# Altium footprint library Quad-Stage-Prototype.PcbLib: 24 footprints (part 2 of 2)
Each footprint in its own frame and in the unit in brackets; x right, y up, seen from the top. Pads: shape width x height; smd on the part's side, far side on the other; paste and mask are expansions set on the pad; w line width, h text height; cw(c..) or ccw(c..) is an arc to the next point about the centre after c.
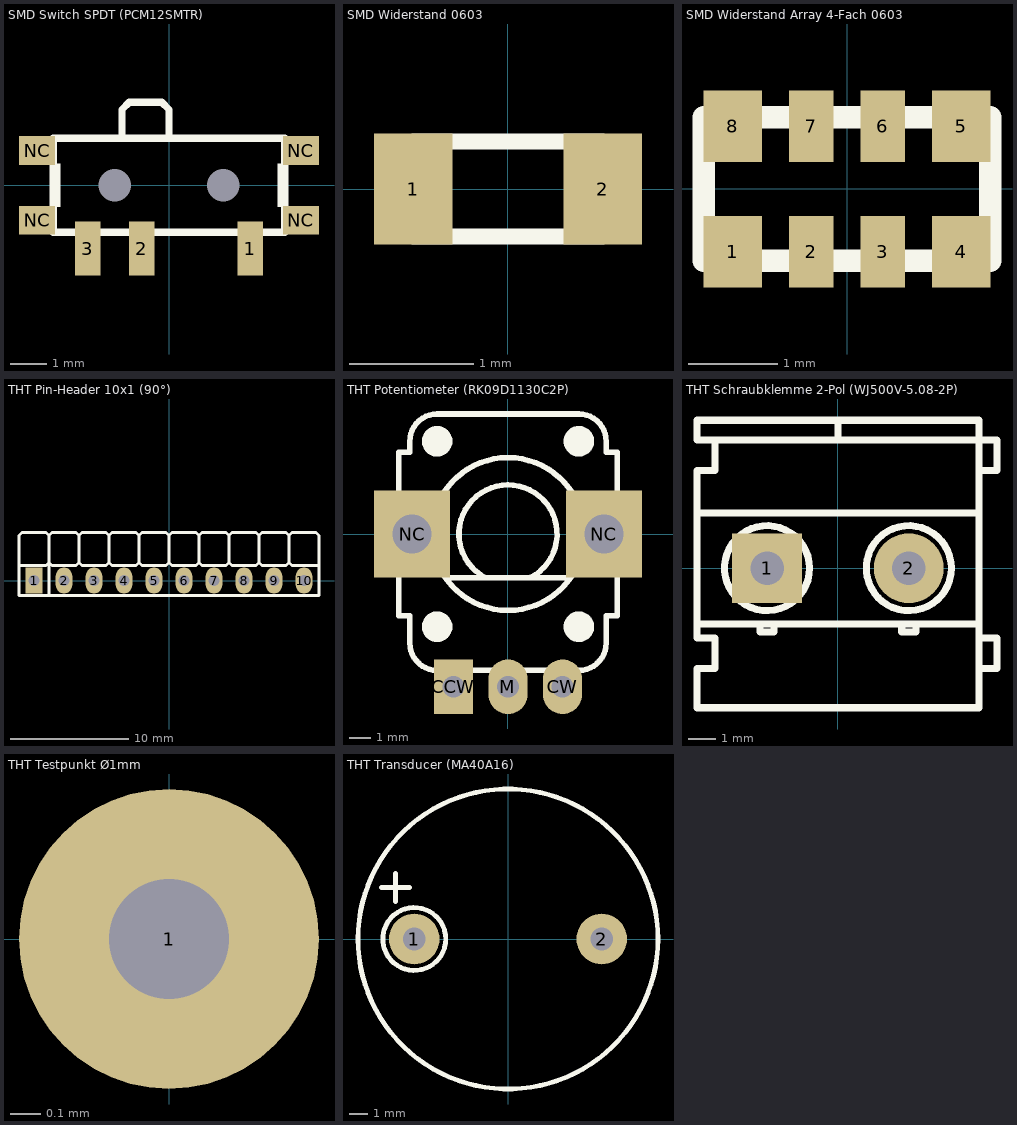
[diagram p1: the footprints below, top view; thin cyan lines are the x and y axes]

## SMD Switch SPDT (PCM12SMTR) [mm]
pads (9):
  rect 0.7x1.5 smd: 1(2.25,-1.75) 2(-0.75,-1.75) 3(-2.25,-1.75)
  rect 1x0.8 smd: NC(-3.65,-0.965) NC(-3.65,0.965) NC(3.65,-0.965) NC(3.65,0.965)
  round 0 hole 0.9 unplated: NC(-1.5,0) NC(1.5,0)
Top Overlay:
  region: 3.2,0.6 3,0.6 3,-0.6 3.2,-0.6
  rectangle: -3.2,-0.6 -3,0.6
  lines w0.203: -1.3,1.3 -1.3,2.1 -1.1,2.3 -0.2,2.3 0,2.1 0,1.3 ; 0,1.3 3.2,1.3 3.2,-1.3 0,-1.3 -3.2,-1.3 -3.2,1.3 0,1.3
3D body "User Library-pcm12smtr.STEP": height 1.4, standoff -0.5, extent -3.673,-2.23 3.681,2.345

## SMD Widerstand 0603 [mil]
height 66.93
pads (2):
  rect 25x35 smd: 1(-30,0) 2(30,0)
Top Overlay:
  lines w5: -30,-15 30,-15 30,15 -30,15 -30,-15
3D body "User Library-Panasonic0603.step": height 17.72, standoff 0, extent -31.5,-16.14 31.5,16.14

## SMD Widerstand Array 4-Fach 0603 [mm]
pads (8):
  rect 0.65x0.8 smd: 1(-1.275,-0.7) 4(1.275,-0.7) 5(1.275,0.7) 8(-1.275,0.7)
  rect 0.5x0.8 smd: 2(-0.4,-0.7) 3(0.4,-0.7) 6(0.4,0.7) 7(-0.4,0.7)
Top Overlay:
  lines w0.254: -1.6,-0.8 1.6,-0.8 1.6,0.8 -1.6,0.8 -1.6,-0.8
3D body "User Library-R-0603-Array-4-1.step": height 0.51, standoff -0.01, extent -1.6,-0.8 1.6,0.8

## THT Pin-Header 10x1 (90°) [mm]
pads (10):
  rect 1.4x2.2 hole 0.9: 1(-11.43,0)
  oval 1.4x2.2 hole 0.9: 2(-8.89,0) 3(-6.35,0) 4(-3.81,0) 5(-1.27,0) 6(1.27,0) 7(3.81,0) 8(6.35,0) 9(8.89,0) 10(11.43,0)
Top Overlay:
  lines w0.254: -10.16,-1.27 -10.16,1.27 ; 12.7,1.524 12.7,3.81 ; -12.7,1.27 -10.414,1.27 -10.16,1.524 ; -12.7,1.27 -12.7,3.81 -12.446,4.064 -10.414,4.064 -10.16,3.81 ; -12.7,1.27 -12.7,-1.27 12.7,-1.27 12.7,1.27 ; -10.16,1.524 -10.16,3.81 ; -10.16,1.524 -9.906,1.27 -7.874,1.27 -7.62,1.524 ; -10.16,1.524 -10.16,3.81 ; -10.16,3.81 -9.906,4.064 -7.874,4.064 -7.62,3.81 ; -7.62,1.524 -7.62,3.81 ; -7.62,1.524 -7.366,1.27 -5.334,1.27 -5.08,1.524 ; -7.62,1.524 -7.62,3.81 ; -7.62,3.81 -7.366,4.064 -5.334,4.064 -5.08,3.81 ; -5.08,1.524 -5.08,3.81 ; -5.08,1.524 -4.826,1.27 -2.794,1.27 -2.54,1.524 ; -5.08,1.524 -5.08,3.81 ; -5.08,3.81 -4.826,4.064 -2.794,4.064 -2.54,3.81 ; -2.54,1.524 -2.54,3.81 ; -2.54,1.524 -2.286,1.27 -0.254,1.27 0,1.524 ; -2.54,1.524 -2.54,3.81 ; -2.54,3.81 -2.286,4.064 -0.254,4.064 0,3.81 ; 0,1.524 0,3.81 ; 0,1.524 0.254,1.27 2.286,1.27 2.54,1.524 ; 0,1.524 0,3.81 ; 0,3.81 0.254,4.064 2.286,4.064 2.54,3.81 ; 2.54,1.524 2.54,3.81 ; 2.54,1.524 2.794,1.27 4.826,1.27 5.08,1.524 ; 2.54,1.524 2.54,3.81 ; 2.54,3.81 2.794,4.064 4.826,4.064 5.08,3.81 ; 5.08,1.524 5.08,3.81 ; 5.08,1.524 5.334,1.27 7.366,1.27 7.62,1.524 ; 5.08,1.524 5.08,3.81 ; 5.08,3.81 5.334,4.064 7.366,4.064 7.62,3.81 ; 7.62,1.524 7.62,3.81 ; 7.62,1.524 7.874,1.27 9.906,1.27 10.16,1.524 ; 7.62,1.524 7.62,3.81 ; 7.62,3.81 7.874,4.064 9.906,4.064 10.16,3.81 ; 10.16,1.524 10.16,3.81 ; 10.16,1.524 10.414,1.27 12.7,1.27 ; 10.16,1.524 10.16,3.81 ; 10.16,3.81 10.414,4.064 12.446,4.064 12.7,3.81 ; 12.7,1.27 12.7,3.81
3D body "User Library-Header90-1.x_b": height 2.54, standoff -3, extent -2.54,-0.381 0,9.979
3D body "User Library-Header90-1.x_b": height 2.54, standoff -3, extent -5.08,-0.381 -2.54,9.979
3D body "User Library-Header90-1.x_b": height 2.54, standoff -3, extent -7.62,-0.381 -5.08,9.979
3D body "User Library-Header90-1.x_b": height 2.54, standoff -3, extent -10.16,-0.381 -7.62,9.979
3D body "User Library-Header90-1.x_b": height 2.54, standoff -3, extent -12.7,-0.381 -10.16,9.979
3D body "User Library-Header90-1.x_b": height 2.54, standoff -3, extent 10.16,-0.381 12.7,9.979
3D body "User Library-Header90-1.x_b": height 2.54, standoff -3, extent 7.62,-0.381 10.16,9.979
3D body "User Library-Header90-1.x_b": height 2.54, standoff -3, extent 5.08,-0.381 7.62,9.979
3D body "User Library-Header90-1.x_b": height 2.54, standoff -3, extent 2.54,-0.381 5.08,9.979
3D body "User Library-Header90-1.x_b": height 2.54, standoff -3, extent 0,-0.381 2.54,9.979

## THT Potentiometer (RK09D1130C2P) [mm] "Capacitor, Electrolytic, Radial; Body 5 x 5 mm (Dia.xH typ); Pin Spacing 2 mm (typ)"
height 6
pads (5):
  rect 1.8x2.5 hole 1: CCW(-2.5,-7)
  oval 1.8x2.5 hole 1: CW(2.5,-7) M(0,-7)
  rect 3.5x4 hole 1.8 square: NC(-4.4,0) NC(4.4,0)
Top Overlay:
  circle w0.8: c-3.25,4.25 r0.3
  circle w0.254: c0,0 r3.5
  circle w0.8: c3.25,4.25 r0.3
  circle w0.8: c-3.25,-4.25 r0.3
  circle w0.8: c3.25,-4.25 r0.3
  lines w0.254: -5,-1 -5.5,-1 -5.5,1 -5,1 ; -2.8,-2 2.8,-2 ; -1.026,-2.002 cw(c0,0) 1.046,-1.992 ; 5,-1 5.5,-1 5.5,1 5,1 ; -5,-3.75 -5,0 -5,3.75 -4.5,3.75 -4.5,4.25 cw(c-3.25,4.25) -3.25,5.5 3.25,5.5 cw(c3.25,4.25) 4.5,4.25 4.5,3.75 5,3.75 5,0 5,-3.75 4.5,-3.75 4.5,-5 cw(c3.25,-5) 3.25,-6.25 -3.25,-6.25 cw(c-3.25,-5) -4.5,-5 -4.5,-3.75 -5,-3.75
3D body "rk09d1130c1b.x_t": height 19.55, standoff -4.15, extent -5.698,-7.15 5.698,5.5

## THT Schraubklemme 2-Pol (WJ500V-5.08-2P) [mm]
height 7.4
pads (2):
  rect 2.5x2.5 hole 1.2: 1(-2.54,0)
  round 2.5 hole 1.2: 2(2.54,0)
Top Overlay:
  circle w0.254: c-2.54,0 r1.524
  circle w0.254: c2.54,0 r1.524
  lines w0.254: -5.05,5.25 -5.05,4.6 ; -5.05,5.3 0,5.3 ; -2.794,-2 -2.794,-2.286 -2.286,-2.286 -2.286,-2 ; 2.286,-2 2.286,-2.286 2.794,-2.286 2.794,-2 ; 5.05,-3.6 5.7,-3.6 5.7,-2.5 5.05,-2.5 ; 5.05,-2 0,-2 -5.05,-2 ; 5.05,1.978 -5.05,1.978 ; 5.05,3.5 5.7,3.5 5.7,4.6 5.05,4.6 0,4.6 ; -5.05,-2 -5.05,1.978 ; -5.05,-2 -5.05,-2.5 -4.4,-2.5 -4.4,-3.6 -5.05,-3.6 -5.05,-5 -0.8,-5 5.05,-5 5.05,5.3 0,5.3 ; -5.05,1.978 -5.05,3.5 -4.4,3.5 -4.4,4.6 -5.05,4.6 ; -5.05,4.6 0,4.6 ; 0,4.6 0,5.3
3D body "KF128-5.08-2P.STEP": height 14.24, standoff -3.71, extent -5.075,-5 5.685,5.3

## THT Testpunkt Ø1mm [mm]
pads (1):
  round 1 hole 0.4: 1(0,0)

## THT Transducer (MA40A16) [mm] "Capacitor, Electrolytic, Radial; Body 5 x 5 mm (Dia.xH typ); Pin Spacing 2 mm (typ)"
height 6
pads (2):
  round 2.7 hole 1.2: 1(-5,0) 2(5,0)
Top Overlay:
  circle w0.254: c0,0 r8
  circle w0.254: c-5,0 r1.677
  lines w0.254: -6.75,2.75 -5.25,2.75 ; -6,2 -6,3.5
3D body "User Library-400PT160.x_t": height 12, standoff -3.2, extent -8.1,-8.1 8.1,8.1